# Altium footprint library PcbLib1.PcbLib: 5 footprints
Each footprint in its own frame and in the unit in brackets; x right, y up, seen from the top. Pads: shape width x height; smd on the part's side, far side on the other; paste and mask are expansions set on the pad; w line width, h text height; cw(c..) or ccw(c..) is an arc to the next point about the centre after c.
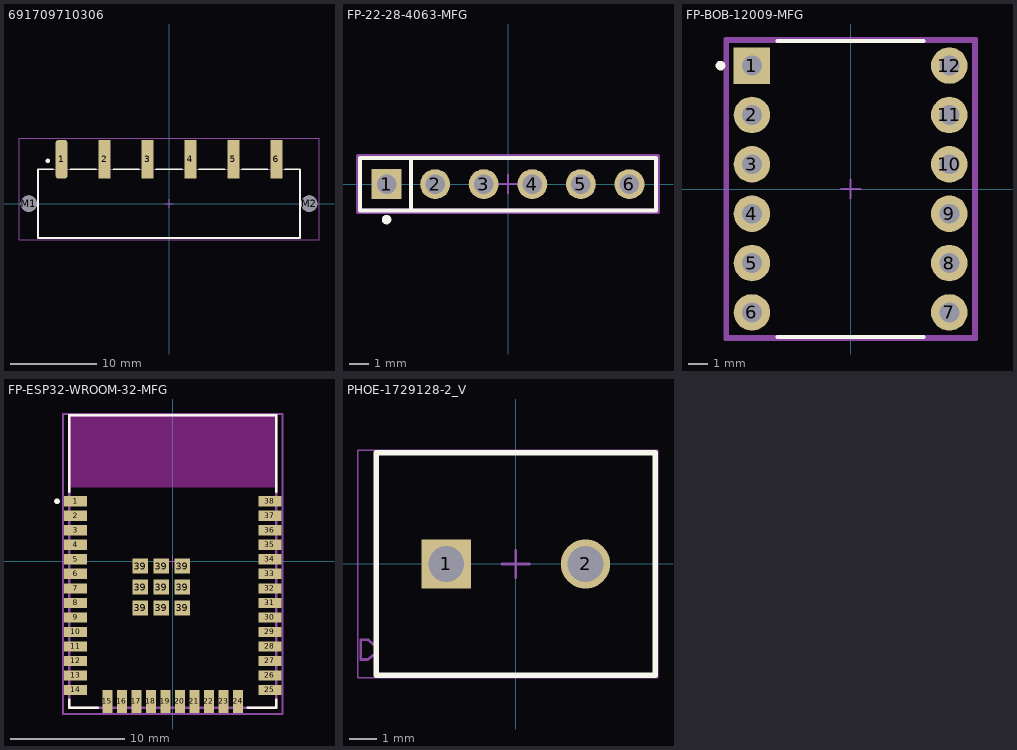
[diagram p0: the footprints below, top view; thin cyan lines are the x and y axes]

## 691709710306 [mm] "Horizontal Entry SMT with Pressure Clamp, pitch 5mm, 06p"
height 10.9
pads (8):
  rrect50% 1.4x4.5 smd: 1(-12.5,5.15)
  rect 1.4x4.5 smd: 2(-7.5,5.15) 3(-2.5,5.15) 4(2.5,5.15) 5(7.5,5.15) 6(12.5,5.15)
  round 1.9 hole 1.9 unplated: M1(-16.3,0) M2(16.3,0)
Top Overlay:
  circle w0.25: c-14.1,4.975 r0.125
  lines w0.2: -13.5,4 -15.25,4 -15.25,-4 15.25,-4 15.25,4 13.5,4 ; -11.5,4 -8.5,4 ; -6.5,4 -3.5,4 ; -1.5,4 1.5,4 ; 3.5,4 6.5,4 ; 8.5,4 11.5,4
Top Designator:
  text ".Designator" at -7.498,-0.5 h1.5
Top Component Outline:
  lines w0.1: -13,4 -13,7 -12,7 -12,4 ; -8,4 -8,7 -7,7 -7,4 ; -3,4 -3,7 -2,7 -2,4 ; 2,4 2,7 3,7 3,4 ; 7,4 7,7 8,7 8,4 ; 12,4 12,7 13,7 13,4 ; -15.25,-4 -15.25,4 15.25,4 15.25,-4 -15.25,-4
Top 3D Body:
  lines w0.1: -13,4 -13,7 -12,7 -12,4 ; -8,4 -8,7 -7,7 -7,4 ; -3,4 -3,7 -2,7 -2,4 ; 2,4 2,7 3,7 3,4 ; 7,4 7,7 8,7 8,4 ; 12,4 12,7 13,7 13,4 ; -15.25,-4 15.25,-4 15.25,4 -15.25,4 -15.25,-4
Top Courtyard:
  lines w0.05: -17.45,-4.2 -17.45,7.6 17.45,7.6 17.45,-4.2 -17.45,-4.2
Top Component Center:
  lines w0.05: -0.5,0 0.5,0 ; 0,-0.5 0,0.5
3D body "691709710306.stp": height 9.95, standoff -1.75, extent -17,-4 17,7

## FP-22-28-4063-MFG [mm]
pads (6):
  rect 1.57x1.57 hole 1.02 paste-2539.97 mask+0: 1(-6.35,0)
  round 1.57 hole 1.02 paste-2539.97 mask+0: 2(-3.81,0) 3(-1.27,0) 4(1.27,0) 5(3.81,0) 6(6.35,0)
Top Overlay:
  circle w0.25: c-6.35,-1.85 r0.125
  lines w0.2: -5.08,-1.37 -5.08,1.37 ; -7.745,-1.37 -7.745,1.37 7.745,1.37 7.745,-1.37 -7.745,-1.37
Top Assembly:
  lines w0.2: -7.845,-1.47 -7.845,1.47 7.845,1.47 7.845,-1.47 -7.845,-1.47
  text ".Designator" at 0,-0.001 h1
Top 3D Body:
  lines w0.2: -7.745,-1.37 -7.745,1.37 7.745,1.37 7.745,-1.37 -7.745,-1.37
Top Courtyard:
  lines w0.2: -7.845,-1.47 -7.845,1.47 7.845,1.47 7.845,-1.47 -7.845,-1.47
Top Component Center:
  lines w0.1: -0.5,0 0.5,0 ; 0,-0.5 0,0.5
3D body "Conn_Molex_22-28-4063_eec.STEP": height 0.25, standoff 0, extent -7.845,-1.47 7.845,1.47

## FP-BOB-12009-MFG [mm]
pads (12):
  rect 1.88x1.88 hole 1.02 paste-2539.97 mask+0: 1(-5.08,6.35)
  round 1.88 hole 1.02 paste-2539.97 mask+0: 2(-5.08,3.81) 3(-5.08,1.27) 4(-5.08,-1.27) 5(-5.08,-3.81) 6(-5.08,-6.35) 7(5.08,-6.35) 8(5.08,-3.81) 9(5.08,-1.27) 10(5.08,1.27) 11(5.08,3.81) 12(5.08,6.35)
Top Overlay:
  circle w0.25: c-6.7,6.35 r0.125
  lines w0.2: -3.765,-7.62 3.765,-7.62 ; -3.765,7.62 3.765,7.62
Top Assembly:
  lines w0.2: -6.45,-7.72 -6.45,7.72 6.45,7.72 6.45,-7.72 -6.45,-7.72
  text ".Designator" at 0,0.188 h1
Top 3D Body:
  lines w0.2: -6.35,-7.62 -6.35,7.62 6.35,7.62 6.35,-7.62 -6.35,-7.62
Top Courtyard:
  lines w0.2: -6.45,-7.72 -6.45,7.72 6.45,7.72 6.45,-7.72 -6.45,-7.72
Top Component Center:
  lines w0.1: -0.5,0 0.5,0 ; 0,-0.5 0,0.5
3D body "UNK_SparkFun_BOB-12009_eec.STEP": height 0.25, standoff 0, extent -6.45,-7.72 6.45,7.72

## FP-ESP32-WROOM-32-MFG [mm]
pads (47):
  rect 2x0.9 smd paste+0 mask+0: 1(-8.5,5.26) 2(-8.5,3.99) 3(-8.5,2.72) 4(-8.5,1.45) 5(-8.5,0.18) 6(-8.5,-1.09) 7(-8.5,-2.36) 8(-8.5,-3.63) 9(-8.5,-4.9) 10(-8.5,-6.17) 11(-8.5,-7.44) 12(-8.5,-8.71) 13(-8.5,-9.98) 14(-8.5,-11.25) 25(8.5,-11.25) 26(8.5,-9.98) 27(8.5,-8.71) 28(8.5,-7.44) 29(8.5,-6.17) 30(8.5,-4.9) 31(8.5,-3.63) 32(8.5,-2.36) 33(8.5,-1.09) 34(8.5,0.18) 35(8.5,1.45) 36(8.5,2.72) 37(8.5,3.99) 38(8.5,5.26)
  rect 0.9x2 smd paste+0 mask+0: 15(-5.715,-12.25) 16(-4.445,-12.25) 17(-3.175,-12.25) 18(-1.905,-12.25) 19(-0.635,-12.25) 20(0.635,-12.25) 21(1.905,-12.25) 22(3.175,-12.25) 23(4.445,-12.25) 24(5.715,-12.25)
  rect 1.33x1.33 smd paste+0 mask+0: 39(-2.835,-4.075) 39(-2.835,-2.24) 39(-2.835,-0.405) 39(-1,-4.075) 39(-1,-2.24) 39(-1,-0.405) 39(0.835,-4.075) 39(0.835,-2.24) 39(0.835,-0.405)
Top Overlay:
  circle w0.25: c-10.125,5.26 r0.125
  lines w0.2: -9.05,-12.075 -9.05,-12.8 -6.54,-12.8 ; -9.05,6.085 -9.05,12.8 9.05,12.8 9.05,6.085 ; 6.54,-12.8 9.05,-12.8 9.05,-12.075
Keep-Out Layer:
  rectangle: -9,6.45 9,12.75
  rectangle: -9,6.45 9,12.75
Top Assembly:
  lines w0.2: -9.6,-13.35 9.6,-13.35 9.6,12.9 -9.6,12.9 -9.6,-13.35
  text ".Designator" at 0,-0.037 h1
Top 3D Body:
  lines w0.2: -9.05,-12.8 9.05,-12.8 9.05,12.8 -9.05,12.8 -9.05,-12.8
Top Courtyard:
  lines w0.2: -9.6,-13.35 9.6,-13.35 9.6,12.9 -9.6,12.9 -9.6,-13.35
Top Component Center:
  lines w0.1: -0.5,0 0.5,0 ; 0,-0.5 0,0.5
3D body "UNK_Espressif_Systems_ESP32-WROOM-32_eec.STEP": height 0.25, standoff 0, extent -9.6,-13.35 9.6,12.9

## PHOE-1729128-2_V [mm] "Receptacle, 2-Leads, Body 8.1x10.16mm, Pitch 5.08mm"
height 10.013
pads (2):
  rect 1.8x1.8 hole 1.3: 1(-2.54,0)
  round 1.8 hole 1.3: 2(2.54,0)
Top Overlay:
  lines w0.2: -5.08,-4.05 5.08,-4.05 5.08,4.05 -5.08,4.05 -5.08,-4.05
Top 3D Body:
  lines w0.1: -5.08,-3.327 -5.209,-3.327 -5.387,-3.477 -5.65,-3.477 -5.65,-2.763 ; -5.08,-2.913 -5.209,-2.913 -5.387,-2.763 -5.65,-2.763 ; -5.65,-2.763 -5.65,-2.763 ; -5.08,-4.05 5.08,-4.05 5.08,4.05 -5.08,4.05 -5.08,-4.05
Top Courtyard:
  lines w0.05: -5.75,-4.15 5.18,-4.15 5.18,4.15 -5.75,4.15 -5.75,-4.15
  lines w0.1: -0.5,0 0.5,0 ; 0,-0.5 0,0.5
3D body "1729128.stp": height 10.01, standoff -3.49, extent -5.65,-4.05 5.08,4.05